# EAGLE library part ADXL335 (library SparkFun-Sensors)
Analog Devices ADXL335 3-Axis Analog Accelerometer The ADXL335 is a small, thin, low power, complete 3-axis accelerometer with signal conditioned voltage outputs. The product measures acceleration with a minimum full-scale range of ±3 g. It can measure the static acceleration of gravity in tiltsensing applications, as well as dynamic acceleration resulting from motion, shock, or vibration. Datasheet <https://www.sparkfun.com/datasheets/Components/SMD/adxl335.pdf> SparkFun Products SparkFun Triple Axis Accelerometer Breakout - ADXL335 <https://www.sparkfun.com/products/9269> (SEN-09269) Triple Axis Accelerometer - ADXL335 <https://www.sparkfun.com/products/9265> (SEN-09265)
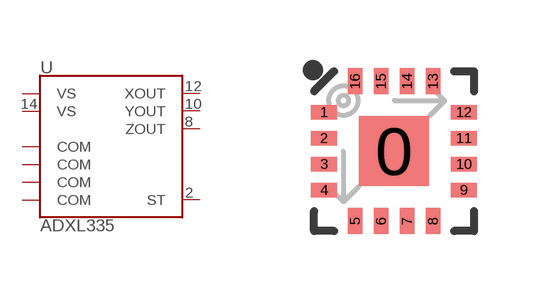
[diagram p13: symbol with the pads of LFCSP-16-4X4; footprint LFCSP-16-4X4]

Designator prefix U

## ADXL335 (PROD_ID: IC-08942; SF_ID: COM-09265)  [LFCSP-16-4X4]
2  ST
3  COM
5  COM
6  COM
7  COM
8  ZOUT
10  YOUT
12  XOUT
14  VS
15  VS

## Footprint LFCSP-16-4X4 (pad centres in mm)
16-Pin LFCSP w/ Center Pad (4 x 4 mm) Datasheet <https://www.sparkfun.com/datasheets/Components/SMD/adxl335.pdf> Specifications: Pin Count: 16 (+ center pad) Area: 4.0 x 4.0 x 1.45 mm Pitch: 0.65 mm Devices Using: ADXL330 ADXL335
smd 1.75 x 1.75: 0 0,0
smd 0.65 x 0.37: 1 -1.75,0.975; 2 -1.75,0.325; 3 -1.75,-0.325; 4 -1.75,-0.975; 9 1.75,-0.975; 10 1.75,-0.325; 11 1.75,0.325; 12 1.75,0.975
smd 0.37 x 0.65: 5 -0.975,-1.75; 6 -0.325,-1.75; 7 0.325,-1.75; 8 0.975,-1.75; 13 0.975,1.75; 14 0.325,1.75; 15 -0.325,1.75; 16 -0.975,1.75